# EAGLE library part GRPB152VWQP (library con-sullins-grpb)
HEADER
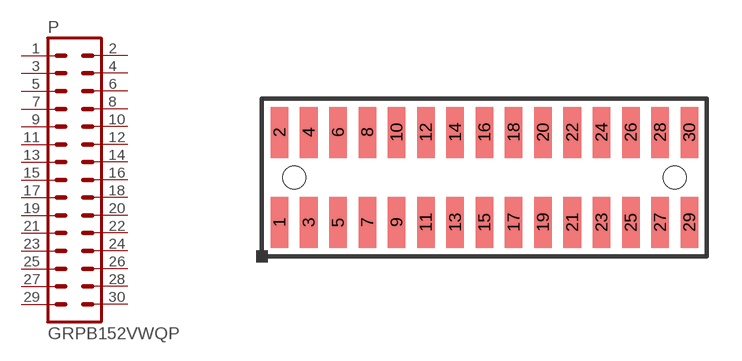
[diagram p12: symbol with the pads of GRPB152VWQP; footprint GRPB152VWQP]

Designator prefix P

## GRPB152VWQP  [GRPB152VWQP]
1  1  pas
2  2  pas
3  3  pas
4  4  pas
5  5  pas
6  6  pas
7  7  pas
8  8  pas
9  9  pas
10  10  pas
11  11  pas
12  12  pas
13  13  pas
14  14  pas
15  15  pas
16  16  pas
17  17  pas
18  18  pas
19  19  pas
20  20  pas
21  21  pas
22  22  pas
23  23  pas
24  24  pas
25  25  pas
26  26  pas
27  27  pas
28  28  pas
29  29  pas
30  30  pas

## Footprint GRPB152VWQP (pad centres in mm)
HEADER
smd 0.762 x 2.21: 1 -8.89,-1.956; 2 -8.89,1.956; 3 -7.62,-1.956; 4 -7.62,1.956; 5 -6.35,-1.956; 6 -6.35,1.956; 7 -5.08,-1.956; 8 -5.08,1.956; 9 -3.81,-1.956; 10 -3.81,1.956; 11 -2.54,-1.956; 12 -2.54,1.956; 13 -1.27,-1.956; 14 -1.27,1.956; 15 0,-1.956; 16 0,1.956; 17 1.27,-1.956; 18 1.27,1.956; 19 2.54,-1.956; 20 2.54,1.956; 21 3.81,-1.956; 22 3.81,1.956; 23 5.08,-1.956; 24 5.08,1.956; 25 6.35,-1.956; 26 6.35,1.956; 27 7.62,-1.956; 28 7.62,1.956; 29 8.89,-1.956; 30 8.89,1.956
hole 1 at -8.255,0
hole 1 at 8.255,0